# Altium integrated library UVR1E220MDD.IntLib: 1 symbol
Pins are listed as number, name and electrical type; pins without a type are passive.

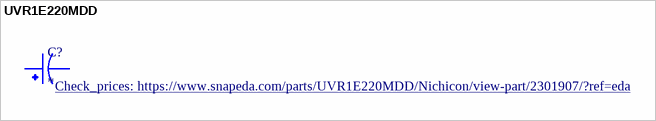
[diagram p0: symbol UVR1E220MDD]

## UVR1E220MDD
designator C?
22ÂµF 25V Aluminum Electrolytic Capacitors Radial, Can 2000 Hrs @ 85Â°C; MF: Nichicon; MP: UVR1E220MDD; Value: *; SnapEDA_Link: https://www.snapeda.com/parts/UVR1E220MDD/Nichicon/view-part/2301907/?ref=snap; Purchase-URL: https://pricing.snapeda.com/search/part/UVR1E220MDD/?ref=eda; Price: None; Availability: Good; Package: Radial Nichicon; Check_prices: https://www.snapeda.com/parts/UVR1E220MDD/Nichicon/view-part/2301907/?ref=eda
footprint CAPPRD200W50D550H1250
pins: 1, 2